# Altium footprint library Coper.PcbLib: 37 footprints (part 2 of 3)
Each footprint in its own frame and in the unit in brackets; x right, y up, seen from the top. Pads: shape width x height; smd on the part's side, far side on the other; paste and mask are expansions set on the pad; w line width, h text height; cw(c..) or ccw(c..) is an arc to the next point about the centre after c.
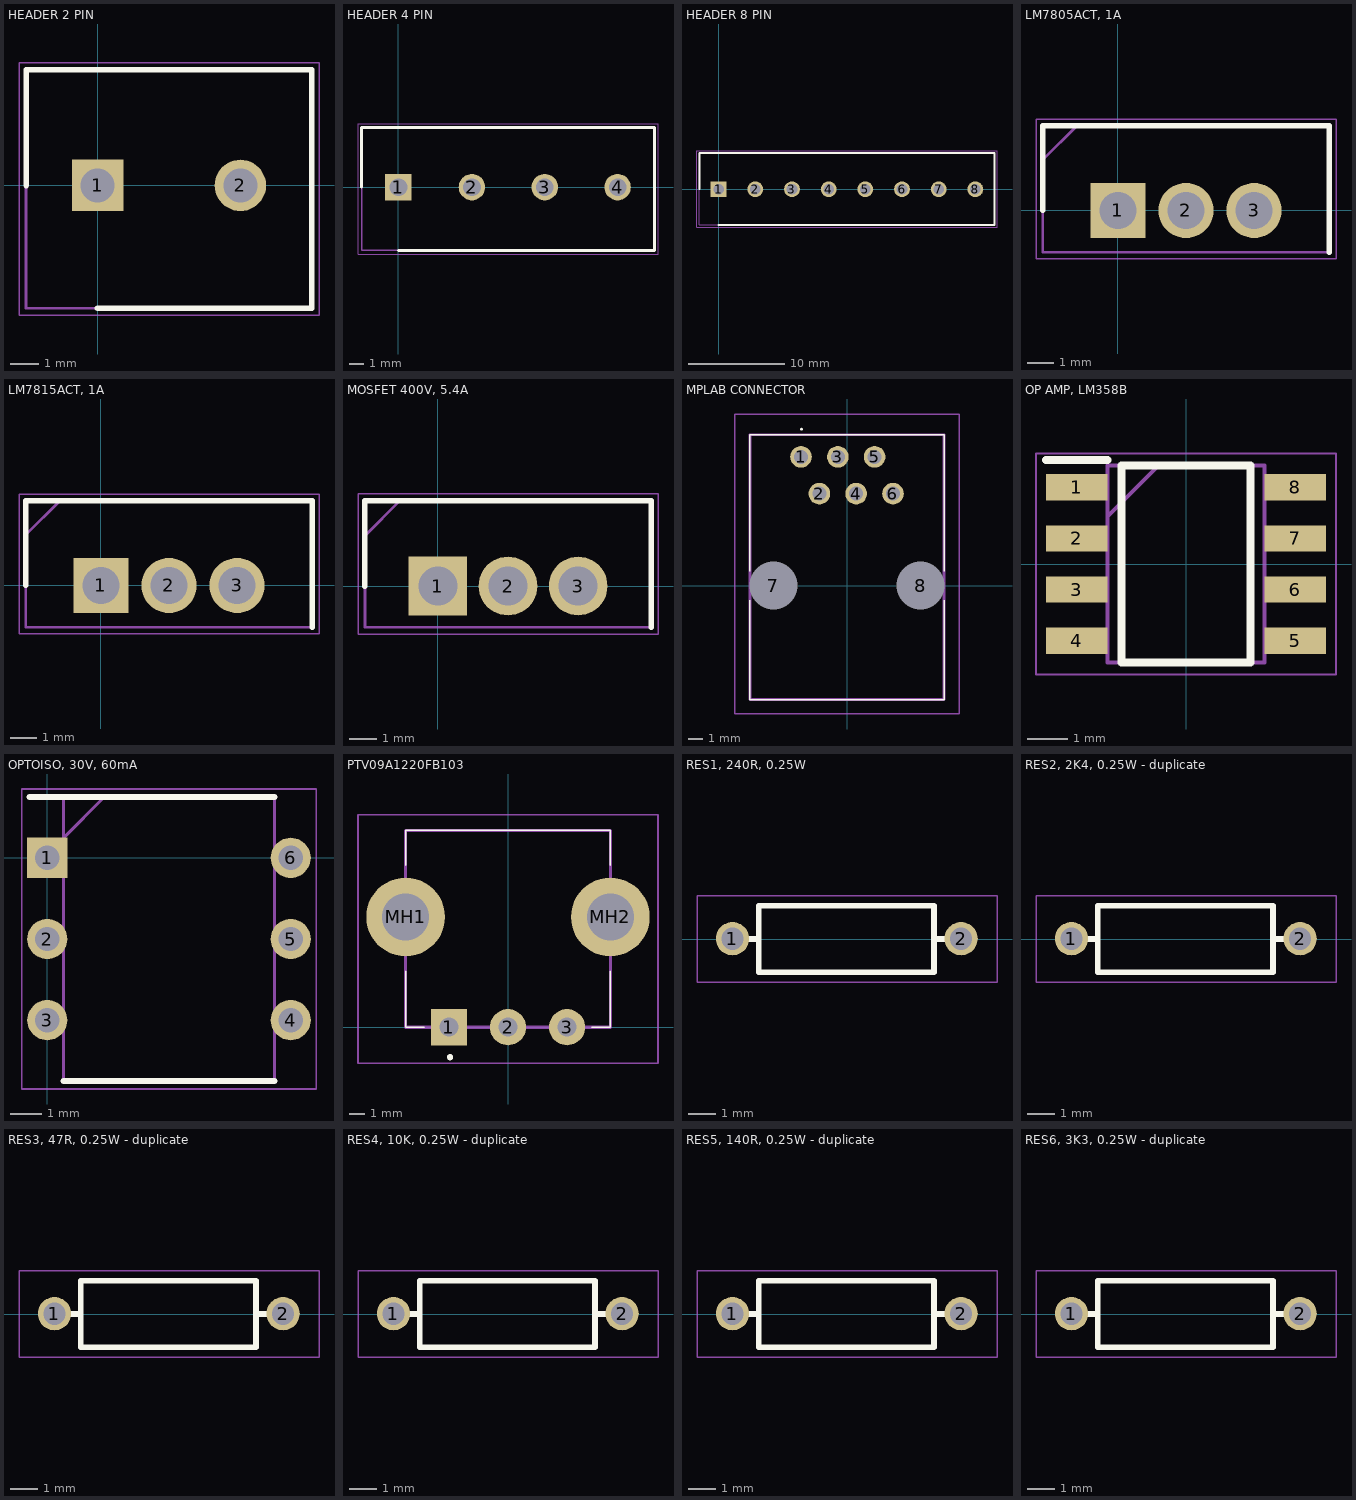
[diagram p1: the footprints below, top view; thin cyan lines are the x and y axes]

## HEADER 2 PIN [mm]
pads (2):
  rect 1.8x1.8 hole 1.2: 1(0,0)
  round 1.8 hole 1.2: 2(5,0)
Top Overlay:
  lines w0.2: -2.5,0 -2.5,4.05 7.5,4.05 7.5,-4.3 0,-4.3
Mechanical 13:
  lines w0.1: -2.5,-4.3 -2.5,4.05 7.5,4.05 7.5,-4.3 -2.5,-4.3
Mechanical 15:
  lines w0.05: -2.75,-4.55 -2.75,4.3 7.75,4.3 7.75,-4.55 -2.75,-4.55

## HEADER 4 PIN [mm]
pads (4):
  rect 1.8x1.8 hole 1.2: 1(0,0)
  round 1.8 hole 1.2: 2(5,0) 3(9.953,0) 4(14.906,0)
Top Overlay:
  lines w0.2: -2.5,0 -2.5,4.05 17.399,4.05 ; 0,-4.3 17.406,-4.318 17.406,4.05
Mechanical 13:
  lines w0.1: 7.5,-4.3 -2.5,-4.3 -2.5,4.05 7.5,4.05 ; 17.406,-4.318 17.406,4.032
Mechanical 15:
  lines w0.05: -2.75,-4.55 -2.75,4.3 17.653,4.3 17.653,-4.55 -2.75,-4.55

## HEADER 8 PIN [mm]
pads (8):
  rect 1.65x1.65 hole 1.1: 1(0,0)
  round 1.65 hole 1.1: 2(3.81,0) 3(7.62,0) 4(11.43,0) 5(15.24,0) 6(19.05,0) 7(22.86,0) 8(26.67,0)
Top Overlay:
  lines w0.2: -2,0 -2,3.75 28.67,3.75 28.67,-3.7 0,-3.7
Mechanical 13:
  lines w0.1: -2,-3.7 -2,3.75 28.67,3.75 28.67,-3.7 -2,-3.7
Mechanical 15:
  lines w0.05: -2.25,-3.95 -2.25,4 28.92,4 28.92,-3.95 -2.25,-3.95

## LM7805ACT, 1A [mm]
pads (3):
  rect 2.055x2.055 hole 1.37: 1(0,0)
  round 2.055 hole 1.37: 2(2.535,0) 3(5.07,0)
Top Overlay:
  lines w0.2: -2.8,0 -2.8,3.15 7.87,3.15 7.87,-1.55
Mechanical 13:
  lines w0.1: -2.8,1.882 -1.532,3.15 ; -2.8,-1.55 7.87,-1.55 7.87,3.15 -2.8,3.15 -2.8,-1.55
Mechanical 15:
  lines w0.05: -3.05,-1.8 8.12,-1.8 8.12,3.4 -3.05,3.4 -3.05,-1.8
3D body "LM7805ACT.stp": height 18.54, standoff -17.53, extent -2.545,-1.55 7.615,3.15

## LM7815ACT, 1A [mm]
pads (3):
  rect 2.055x2.055 hole 1.37: 1(0,0)
  round 2.055 hole 1.37: 2(2.535,0) 3(5.07,0)
Top Overlay:
  lines w0.2: -2.8,0 -2.8,3.15 7.87,3.15 7.87,-1.55
Mechanical 13:
  lines w0.1: -2.8,1.882 -1.532,3.15 ; -2.8,-1.55 7.87,-1.55 7.87,3.15 -2.8,3.15 -2.8,-1.55
Mechanical 15:
  lines w0.05: -3.05,-1.8 8.12,-1.8 8.12,3.4 -3.05,3.4 -3.05,-1.8
3D body "LM7805ACT.stp": height 18.54, standoff -17.53, extent -2.545,-1.55 7.615,3.15

## MOSFET 400V, 5.4A [mm]
pads (3):
  rect 2.13x2.13 hole 1.42: 1(0,0)
  round 2.13 hole 1.42: 2(2.55,0) 3(5.1,0)
Top Overlay:
  lines w0.2: -2.65,0 -2.65,3.1 7.75,3.1 7.75,-1.5
Mechanical 13:
  lines w0.1: -2.65,1.825 -1.375,3.1 ; -2.65,-1.5 -2.65,3.1 7.75,3.1 7.75,-1.5 -2.65,-1.5
Mechanical 15:
  lines w0.05: -2.9,-1.75 -2.9,3.35 8,3.35 8,-1.75 -2.9,-1.75
3D body "STP7NK40ZFP.stp": height 19.4, standoff -18.3, extent -2.55,-1.5 7.65,3.1

## MPLAB CONNECTOR [mm]
pads (8):
  round 1.493 hole 0.96: 1(-3.175,8.89) 2(-1.905,6.35) 3(-0.635,8.89) 4(0.635,6.35) 5(1.905,8.89) 6(3.175,6.35)
  round 1.665 hole 3.33 unplated: 7(-5.08,0) 8(5.08,0)
Top Overlay:
  lines w0.1: -6.705,-1 -6.705,-7.87 6.705,-7.87 6.705,-1 ; -6.705,1 -6.705,10.42 6.705,10.42 6.705,1 ; -3.2,10.8 cw(c-3.15,10.8) -3.1,10.8 cw(c-3.15,10.8) -3.2,10.8
Mechanical 13:
  lines w0.2: -6.705,-7.87 6.705,-7.87 6.705,10.42 -6.705,10.42 -6.705,-7.87
Mechanical 15:
  lines w0.1: -7.745,-8.87 7.745,-8.87 7.745,11.85 -7.745,11.85 -7.745,-8.87
3D body "5555165-1.stp": height 12.1, standoff -5, extent -6.705,-7.87 6.705,10.42

## OP AMP, LM358B [mm]
pads (8):
  rect 1.525x0.65 smd: 1(-2.712,1.905) 2(-2.712,0.635) 3(-2.712,-0.635) 4(-2.712,-1.905) 5(2.712,-1.905) 6(2.712,-0.635) 7(2.712,0.635) 8(2.712,1.905)
Top Overlay:
  lines w0.2: -3.475,2.58 -1.95,2.58 ; -1.6,-2.45 -1.6,2.45 1.6,2.45 1.6,-2.45 -1.6,-2.45
Mechanical 13:
  lines w0.1: -1.95,1.18 -0.68,2.45 ; -1.95,-2.45 -1.95,2.45 1.95,2.45 1.95,-2.45 -1.95,-2.45
Mechanical 15:
  lines w0.05: -3.725,-2.75 -3.725,2.75 3.725,2.75 3.725,-2.75 -3.725,-2.75
3D body "NE555DR.stp": height 1.75, standoff 0, extent -3,-2.45 3,2.45

## OPTOISO, 30V, 60mA [mm]
pads (6):
  rect 1.26x1.26 hole 0.76: 1(0,0)
  round 1.26 hole 0.76: 2(0,-2.54) 3(0,-5.08) 4(7.62,-5.08) 5(7.62,-2.54) 6(7.62,0)
Top Overlay:
  lines w0.2: -0.555,1.905 7.11,1.905 ; 0.51,-6.985 7.11,-6.985
Mechanical 13:
  lines w0.1: 0.51,0.635 1.78,1.905 ; 0.51,-6.985 0.51,1.905 7.11,1.905 7.11,-6.985 0.51,-6.985
Mechanical 15:
  lines w0.05: -0.805,-7.235 -0.805,2.155 8.425,2.155 8.425,-7.235 -0.805,-7.235
3D body "4N35M.stp": height 5.08, standoff -3.5, extent -0.128,-6.795 7.748,1.715

## PTV09A1220FB103 [mm]
pads (5):
  rect 2.3x2.3 hole 1.2: 1(-3.75,0)
  round 2.3 hole 1.2: 2(0,0) 3(3.75,0)
  round 5 hole 2.973: MH1(-6.5,7) MH2(6.5,7)
Top Overlay:
  lines w0.1: -6.5,3.556 -6.5,0 -5.31,0 ; -6.5,10.287 -6.5,12.5 6.5,12.5 6.5,10.287 ; 5.334,0 6.5,0 6.5,3.556
  lines w0.2: -3.783,-1.905 cw(c-3.683,-1.905) -3.762,-1.966
Mechanical 13:
  lines w0.2: -6.5,0 6.5,0 6.5,12.5 -6.5,12.5 -6.5,0
Mechanical 15:
  lines w0.1: -9.525,-2.3 9.525,-2.3 9.525,13.5 -9.525,13.5 -9.525,-2.3

## RES1, 240R, 0.25W [mm]
pads (2):
  round 1.2 hole 0.8: 1(3.853,0.011) 2(12.074,0.011)
Top Overlay:
  lines w0.2: 3.803,0 4.8,0 ; 11.1,0 12.074,0 ; 4.8,-1.2 11.1,-1.2 11.1,1.2 4.8,1.2 4.8,-1.2
Mechanical 13:
  lines w0.1: 3.853,0 4.8,0 ; 11.1,0 12.007,0 ; 4.8,-1.2 11.1,-1.2 11.1,1.2 4.8,1.2 4.8,-1.2
Mechanical 15:
  lines w0.05: 2.578,-1.55 13.366,-1.55 13.366,1.55 2.578,1.55 2.578,-1.55

## RES2, 2K4, 0.25W - duplicate [mm]
pads (2):
  round 1.2 hole 0.8: 1(3.853,0.011) 2(12.074,0.011)
Top Overlay:
  lines w0.2: 3.803,0 4.8,0 ; 11.1,0 12.074,0 ; 4.8,-1.2 4.8,1.2 11.1,1.2 11.1,-1.2 4.8,-1.2
Mechanical 13:
  lines w0.1: 3.853,0 4.8,0 ; 11.1,0 12.007,0 ; 4.8,-1.2 4.8,1.2 11.1,1.2 11.1,-1.2 4.8,-1.2
Mechanical 15:
  lines w0.05: 2.578,-1.55 2.578,1.55 13.366,1.55 13.366,-1.55 2.578,-1.55

## RES3, 47R, 0.25W - duplicate [mm]
pads (2):
  round 1.2 hole 0.8: 1(3.853,0.011) 2(12.074,0.011)
Top Overlay:
  lines w0.2: 3.803,0 4.8,0 ; 11.1,0 12.074,0 ; 4.8,-1.2 11.1,-1.2 11.1,1.2 4.8,1.2 4.8,-1.2
Mechanical 13:
  lines w0.1: 3.853,0 4.8,0 ; 11.1,0 12.007,0 ; 4.8,-1.2 11.1,-1.2 11.1,1.2 4.8,1.2 4.8,-1.2
Mechanical 15:
  lines w0.05: 2.578,-1.55 13.366,-1.55 13.366,1.55 2.578,1.55 2.578,-1.55

## RES4, 10K, 0.25W - duplicate [mm]
pads (2):
  round 1.2 hole 0.8: 1(3.853,0.011) 2(12.074,0.011)
Top Overlay:
  lines w0.2: 3.803,0 4.8,0 ; 11.1,0 12.074,0 ; 4.8,-1.2 11.1,-1.2 11.1,1.2 4.8,1.2 4.8,-1.2
Mechanical 13:
  lines w0.1: 3.853,0 4.8,0 ; 11.1,0 12.007,0 ; 4.8,-1.2 11.1,-1.2 11.1,1.2 4.8,1.2 4.8,-1.2
Mechanical 15:
  lines w0.05: 2.578,-1.55 13.366,-1.55 13.366,1.55 2.578,1.55 2.578,-1.55

## RES5, 140R, 0.25W - duplicate [mm]
pads (2):
  round 1.2 hole 0.8: 1(3.853,0.011) 2(12.074,0.011)
Top Overlay:
  lines w0.2: 3.803,0 4.8,0 ; 11.1,0 12.074,0 ; 4.8,-1.2 4.8,1.2 11.1,1.2 11.1,-1.2 4.8,-1.2
Mechanical 13:
  lines w0.1: 3.853,0 4.8,0 ; 11.1,0 12.007,0 ; 4.8,-1.2 4.8,1.2 11.1,1.2 11.1,-1.2 4.8,-1.2
Mechanical 15:
  lines w0.05: 2.578,-1.55 2.578,1.55 13.366,1.55 13.366,-1.55 2.578,-1.55

## RES6, 3K3, 0.25W - duplicate [mm]
pads (2):
  round 1.2 hole 0.8: 1(3.853,0.011) 2(12.074,0.011)
Top Overlay:
  lines w0.2: 3.803,0 4.8,0 ; 11.1,0 12.074,0 ; 4.8,-1.2 11.1,-1.2 11.1,1.2 4.8,1.2 4.8,-1.2
Mechanical 13:
  lines w0.1: 3.853,0 4.8,0 ; 11.1,0 12.007,0 ; 4.8,-1.2 11.1,-1.2 11.1,1.2 4.8,1.2 4.8,-1.2
Mechanical 15:
  lines w0.05: 2.578,-1.55 13.366,-1.55 13.366,1.55 2.578,1.55 2.578,-1.55